# EAGLE library part L298N (library L298N)
L298N
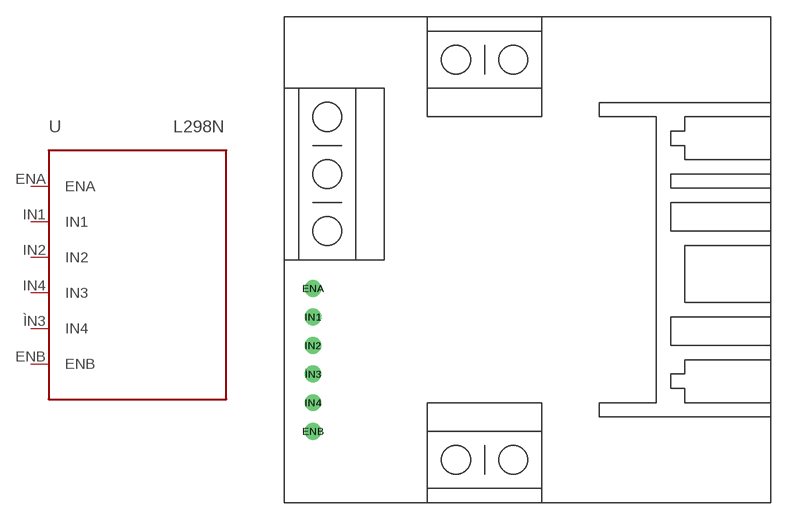
[diagram p0: symbol with the pads of L298N; footprint L298N]

Designator prefix -

## L298N  [L298N]
ENA  ENA
ENB  ENB
IN1  IN1
IN2  IN2
IN4  IN3
ÌN3  IN4

## Footprint L298N (pad centres in mm)
drill 1: ENA 2.54,19.05; ENB 2.54,6.35; IN1 2.54,16.51; IN2 2.54,13.97; IN4 2.54,8.89; ÌN3 2.54,11.43